# EAGLE library part ATMEGA328P (library eagle-book)
Atmel 32-pin 8-bit microcontroller
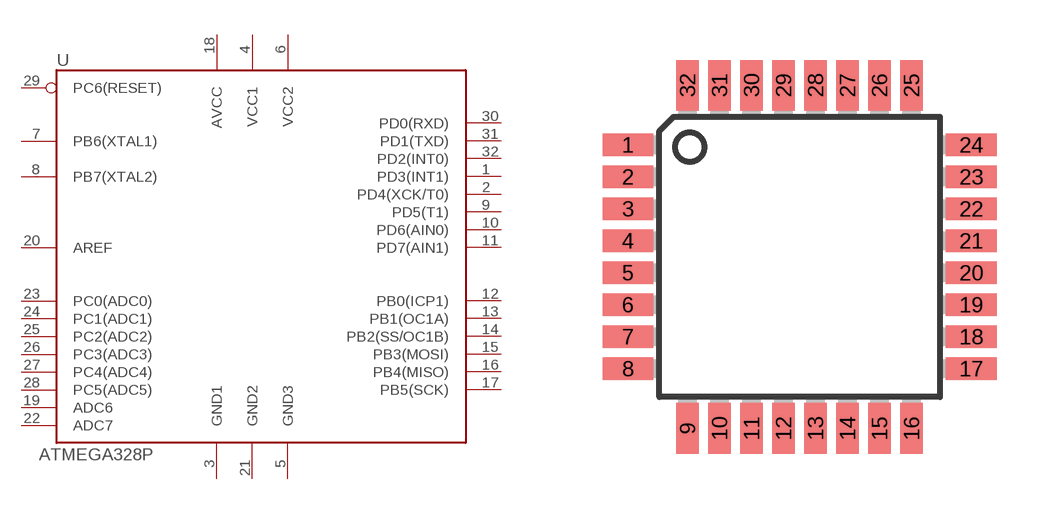
[diagram p1: symbol with the pads of TQFP32; footprint TQFP32]

Designator prefix U

## ATMEGA328P-AU  [TQFP32]
1  PD3(INT1)
2  PD4(XCK/T0)
3  GND1
4  VCC1
5  GND3
6  VCC2
7  PB6(XTAL1)
8  PB7(XTAL2)
9  PD5(T1)
10  PD6(AIN0)
11  PD7(AIN1)
12  PB0(ICP1)
13  PB1(OC1A)
14  PB2(SS/OC1B)
15  PB3(MOSI)
16  PB4(MISO)
17  PB5(SCK)
18  AVCC
19  ADC6
20  AREF
21  GND2
22  ADC7
23  PC0(ADC0)
24  PC1(ADC1)
25  PC2(ADC2)
26  PC3(ADC3)
27  PC4(ADC4)
28  PC5(ADC5)
29  PC6(RESET)
30  PD0(RXD)
31  PD1(TXD)
32  PD2(INT0)

## Footprint TQFP32 (pad centres in mm)
32-pin Thin Plastic Quad Flat Package
smd 1.27 x 0.559: 1 -4.293,2.8; 2 -4.293,2; 3 -4.293,1.2; 4 -4.293,0.4; 5 -4.293,-0.4; 6 -4.293,-1.2; 7 -4.293,-2; 8 -4.293,-2.8; 17 4.293,-2.8; 18 4.293,-2; 19 4.293,-1.2; 20 4.293,-0.4; 21 4.293,0.4; 22 4.293,1.2; 23 4.293,2; 24 4.293,2.8
smd 0.559 x 1.27: 9 -2.8,-4.293; 10 -2,-4.293; 11 -1.2,-4.293; 12 -0.4,-4.293; 13 0.4,-4.293; 14 1.2,-4.293; 15 2,-4.293; 16 2.8,-4.293; 25 2.8,4.293; 26 2,4.293; 27 1.2,4.293; 28 0.4,4.293; 29 -0.4,4.293; 30 -1.2,4.293; 31 -2,4.293; 32 -2.8,4.293